# Altium schematic symbol library Schlib_Meteor.SchLib: 3 symbols
Pins are listed as number, name and electrical type; pins without a type are passive.

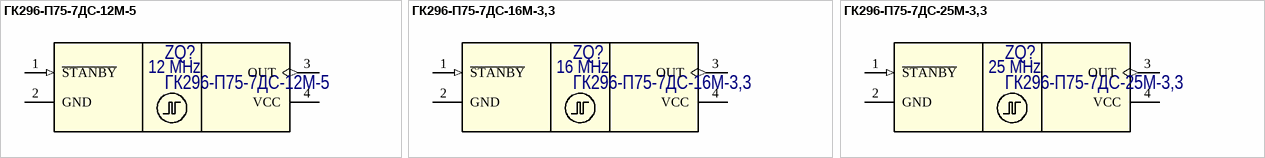
[diagram p0: symbols ГК296-П75-7ДС-12М-5 to ГК296-П75-7ДС-25М-3,3]

## ГК296-П75-7ДС-12М-5
designator ZQ?
12 MHz clock oscillator; Manufacturer: АО «Завод «Метеор»; Part Number: ГК296-П75-7ДС-12М-5
footprint SMD7050
pins: 1 ~{STANBY} (in), 2 GND (power), 3 OUT (out), 4 VCC (power)
text: 12 MHz

## ГК296-П75-7ДС-16М-3,3
designator ZQ?
16 MHz clock oscillator; Manufacturer: АО «Завод «Метеор»; Part Number: ГК296-П75-7ДС-16М-3,3
footprint SMD7050
pins: 1 ~{STANBY} (in), 2 GND (power), 3 OUT (out), 4 VCC (power)
text: 16 MHz

## ГК296-П75-7ДС-25М-3,3
designator ZQ?
25 MHz clock oscillator; Manufacturer: АО «Завод «Метеор»; Part Number: ГК296-П75-7ДС-25М-3,3
footprint SMD7050
pins: 1 ~{STANBY} (in), 2 GND (power), 3 OUT (out), 4 VCC (power)
text: 25 MHz